# Altium schematic symbol library Optocoupleur.SchLib: 1 symbol
Pins are listed as number, name and electrical type; pins without a type are passive.

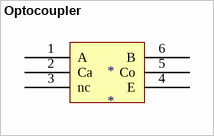
[diagram p0: symbol Optocoupler]

## Optocoupler
designator *
footprint 4N26
pins: 1 A, 2 Ca, 3 nc, 4 E, 5 Co, 6 B